# Altium schematic symbol library INA219BIDR.SchLib: 1 symbol
Pins are listed as number, name and electrical type; pins without a type are passive.

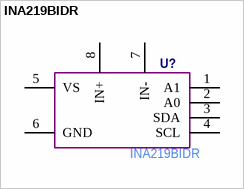
[diagram p0: symbol INA219BIDR]

## INA219BIDR
designator U?  Manufacturer Part Number: INA219BIDR  (hidden comment: *)
pins: 1 A1, 2 A0, 3 SDA, 4 SCL, 5 VS, 6 GND, 7 IN-, 8 IN+